# Altium footprint library SPANNING CONVERTERS.PcbLib: 4 footprints
Each footprint in its own frame and in the unit in brackets; x right, y up, seen from the top. Pads: shape width x height; smd on the part's side, far side on the other; paste and mask are expansions set on the pad; w line width, h text height; cw(c..) or ccw(c..) is an arc to the next point about the centre after c.
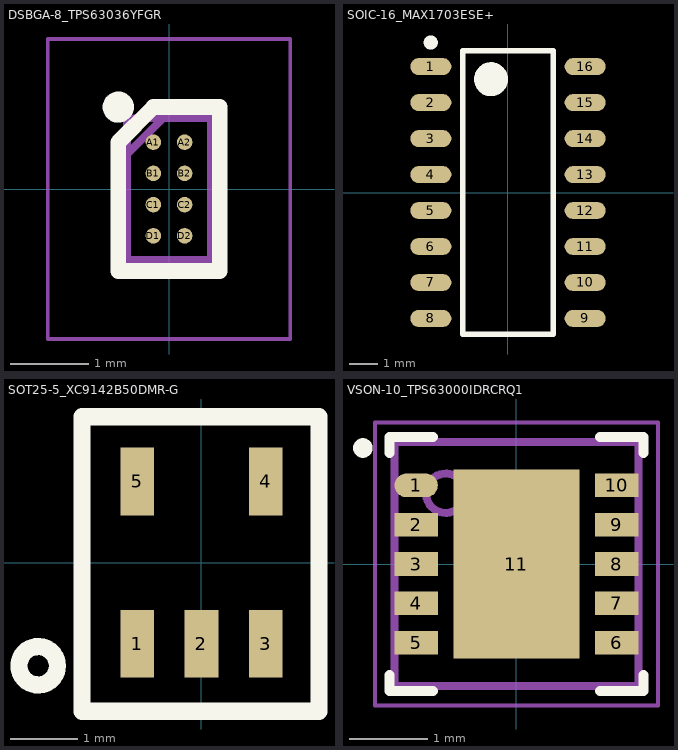
[diagram p0: the footprints below, top view; thin cyan lines are the x and y axes]

## DSBGA-8_TPS63036YFGR [mm] "SMPS BUCK/BOOST 1.8V -5.5V input, 1.2V-5.5V + 1A output"
pads (8):
  round 0.2 smd: A1(-0.2,0.6) A2(0.2,0.6) B1(-0.2,0.2) B2(0.2,0.2) C1(-0.2,-0.2) C2(0.2,-0.2) D1(-0.2,-0.6) D2(0.2,-0.6)
Top Overlay:
  circle w0.2: c-0.65,1.05 r0.1
  lines w0.2: -0.65,-1.05 -0.65,0.6 -0.2,1.05 0.65,1.05 0.65,-1.05 -0.65,-1.05
Mechanical 15:
  lines w0.1: -0.538,0.446 -0.077,0.907 ; -0.538,-0.907 -0.538,0.907 0.538,0.907 0.538,-0.907 -0.538,-0.907
Mechanical 20:
  lines w0.05: -1.553,-1.922 -1.553,1.922 1.553,1.922 1.553,-1.922 -1.553,-1.922
3D body "TPS63036YFGR.stp": height 0.63, standoff 0, extent -0.538,-0.907 0.538,0.907

## SOIC-16_MAX1703ESE+ [mm] "DC-DC Boost Regulator, 0.7V-5.5V Vin, 1.5A, 1-3 cell"
pads (16):
  oval 1.45x0.6 smd: 1(-2.725,4.445) 2(-2.725,3.175) 3(-2.725,1.905) 4(-2.725,0.635) 5(-2.725,-0.635) 6(-2.725,-1.905) 7(-2.725,-3.175) 8(-2.725,-4.445) 9(2.725,-4.445) 10(2.725,-3.175) 11(2.725,-1.905) 12(2.725,-0.635) 13(2.725,0.635) 14(2.725,1.905) 15(2.725,3.175) 16(2.725,4.445)
Top Overlay:
  circle w0.25: c-2.725,5.295 r0.125
  circle w0.6: c-0.6,4 r0.3
  lines w0.2: -1.6,-5 -1.6,5 1.6,5 1.6,-5 -1.6,-5
3D body "MAX1703ESE+.stp": height 1.66, standoff -0.06, extent -3,-4.95 3,4.95

## SOT25-5_XC9142B50DMR-G [mm] "DC-DC Boost Converter, 5.0V Fixed Out, 0.8A, Synch, 3MHz"
pads (5):
  rect 0.5x1 smd: 1(-0.95,-1.2) 2(0,-1.2) 3(0.95,-1.2) 4(0.95,1.2) 5(-0.95,1.2)
Top Overlay:
  circle w0.254: c-2.413,-1.524 r0.284
  lines w0.254: -1.766,-2.198 1.737,-2.198 1.737,2.158 -1.766,2.158 -1.766,-2.198
3D body "XC9142B50DMR-G.STEP": height 1.3, standoff 0, extent -1.45,-1.527 1.45,1.273

## VSON-10_TPS63000IDRCRQ1 [mm] "SMPS BUCK/BOOST, INPUT  1.8-5.5V, OUTPUT: 1.2-5.5V + 1.8A"
height 1
pads (11):
  oval 0.55x0.3 smd: 1(-1.275,1)
  rect 0.55x0.3 smd: 2(-1.275,0.5) 3(-1.275,0) 4(-1.275,-0.5) 5(-1.275,-1) 6(1.275,-1) 7(1.275,-0.5) 8(1.275,0) 9(1.275,0.5) 10(1.275,1)
  rect 1.6x2.4 smd paste-0.349: 11(0,0)
Top Overlay:
  circle w0.125: c-1.952,1.475 r0.062
  lines w0.127: -1.614,-1.413 -1.614,-1.613 -1.064,-1.613 ; -1.614,1.413 -1.614,1.613 -1.064,1.613 ; 1.063,-1.613 1.613,-1.613 1.613,-1.413 ; 1.063,1.613 1.613,1.613 1.613,1.413
Top Courtyard:
  lines w0.05: -1.8,-1.8 1.8,-1.8 1.8,1.8 -1.8,1.8 -1.8,-1.8
Top Assembly:
  circle w0.1: c-0.9,0.9 r0.25
  lines w0.1: -1.55,-1.55 1.55,-1.55 1.55,1.55 -1.55,1.55 -1.55,-1.55
Top Designator:
  text ".Designator" at 0,0.188 h1
Top Component Center:
  lines w0.1: -0.5,0 0.5,0 ; 0,-0.5 0,0.5
3D body "TPS63000IDRCRQ1.stp": height 1, standoff 0, extent -1.5,-1.5 1.5,1.5